# Altium integrated library RH73X2A50GNTN.IntLib: 2 symbols
Pins are listed as number, name and electrical type; pins without a type are passive.

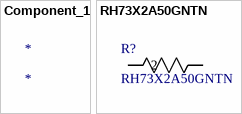
[diagram p0: symbols Component_1 to RH73X2A50GNTN]

## Component_1
designator *

## RH73X2A50GNTN
designator R?
No Description Available; Mfr_Name: TE Connectivity; Copyright: Copyright (C) 2022 Ultra Librarian. All rights reserved.; Manufacturer_Part_Number: RH73X2A50GNTN; RefDes: RefDes; Type: DEV
footprint RES_RH732A_TYC
pins: 1, 2